# Altium footprint library Con Mod Jack PCB.PcbLib: 213 footprints (part 2 of 14)
Each footprint in its own frame and in the unit in brackets; x right, y up, seen from the top. Pads: shape width x height; smd on the part's side, far side on the other; paste and mask are expansions set on the pad; w line width, h text height; cw(c..) or ccw(c..) is an arc to the next point about the centre after c.
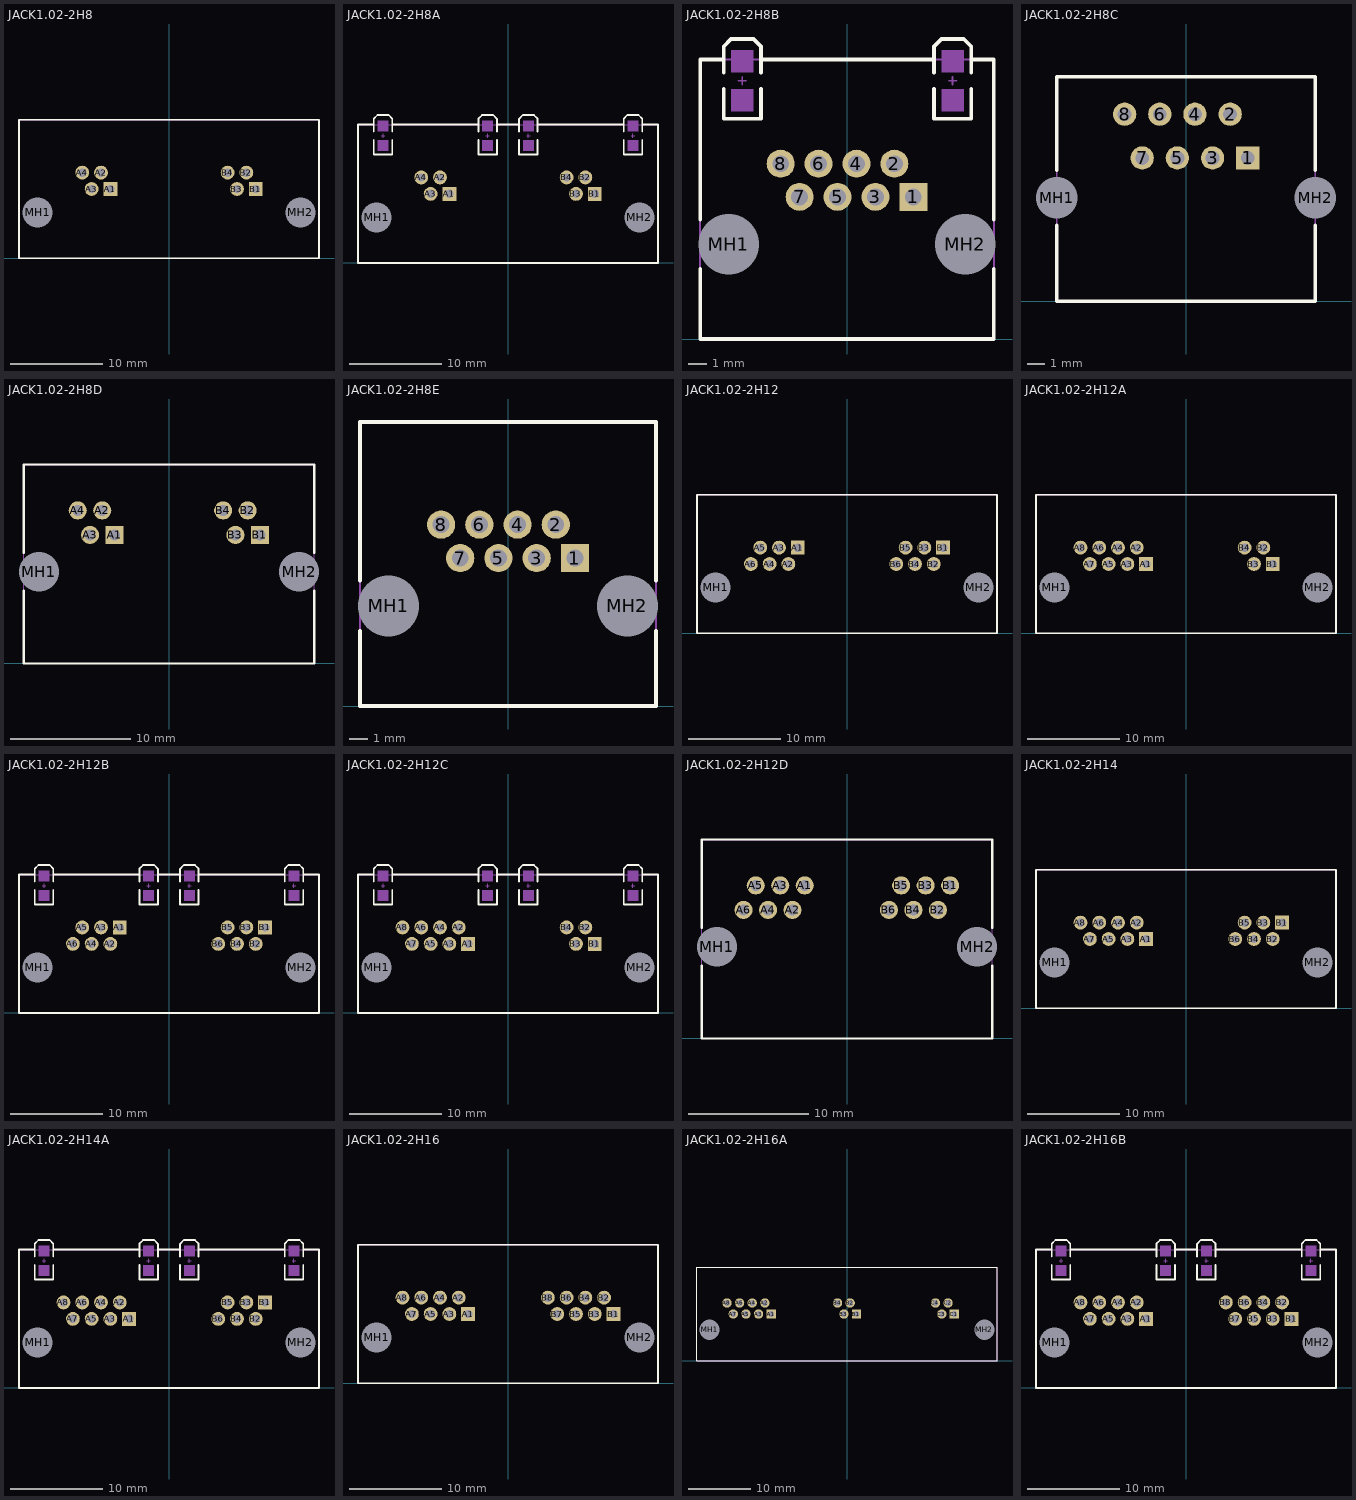
[diagram p1: the footprints below, top view; thin cyan lines are the x and y axes]

## JACK1.02-2H8 [mm] "Connector; PCB Jack, Thru-Hole; 2-Port, 6 Positions, 4 Loaded; Unshielded without Lightpipes; Right Angle"
height 13.21
pads (10):
  rect 1.5x1.5 hole 0.9: A1(-6.35,7.49) B1(9.398,7.49)
  round 1.5 hole 0.9: A2(-7.366,9.268) A3(-8.382,7.49) A4(-9.398,9.268) B2(8.382,9.268) B3(7.366,7.49) B4(6.35,9.268)
  round 2.95 hole 3.25 unplated: MH1(-14.224,4.95) MH2(14.224,4.95)
Top Overlay:
  lines w0.2: -16.249,0 16.249,0 16.249,14.99 -16.249,14.99 -16.249,0
Mechanical 13:
  lines w0.1: -16.249,0 -16.249,14.99 16.249,14.99 16.249,0 -16.249,0
3D body: height 13.21, standoff 0, extent -16.249,0 16.249,14.99

## JACK1.02-2H8A [mm] "Connector; PCB Jack, Thru-Hole; 2-Port, 6 Positions, 4 Loaded; Unshielded with Lightpipes; Right Angle"
height 13.21
pads (10):
  rect 1.5x1.5 hole 0.9: A1(-6.35,7.49) B1(9.398,7.49)
  round 1.5 hole 0.9: A2(-7.366,9.268) A3(-8.382,7.49) A4(-9.398,9.268) B2(8.382,9.268) B3(7.366,7.49) B4(6.35,9.268)
  round 2.95 hole 3.25 unplated: MH1(-14.224,4.95) MH2(14.224,4.95)
Top Overlay:
  lines w0.2: -14.538,13.348 -14.538,11.748 -12.538,11.748 -12.538,13.348 ; -14.538,14.231 -14.538,15.631 -14.138,16.031 -12.938,16.031 -12.538,15.631 -12.538,14.231 ; -14.538,14.99 -16.249,14.99 -16.249,0 16.249,0 16.249,14.99 14.538,14.99 ; -12.538,14.99 -3.21,14.99 ; -3.21,13.348 -3.21,11.748 -1.21,11.748 -1.21,13.348 ; -3.21,14.231 -3.21,15.631 -2.81,16.031 -1.61,16.031 -1.21,15.631 -1.21,14.231 ; -1.21,14.99 1.21,14.99 ; 1.21,13.348 1.21,11.748 3.21,11.748 3.21,13.348 ; 1.21,14.231 1.21,15.631 1.61,16.031 2.81,16.031 3.21,15.631 3.21,14.231 ; 3.21,14.99 12.538,14.99 ; 12.538,13.348 12.538,11.748 14.538,11.748 14.538,13.348 ; 12.538,14.231 12.538,15.631 12.938,16.031 14.138,16.031 14.538,15.631 14.538,14.231
Mechanical 1:
  rectangle: -14.138,12.148 -12.938,13.348
  rectangle: -2.81,12.148 -1.61,13.348
  rectangle: -2.81,14.231 -1.61,15.431
  rectangle: 1.61,14.231 2.81,15.431
  rectangle: 1.61,12.148 2.81,13.348
  rectangle: 12.938,14.231 14.138,15.431
  rectangle: 12.938,12.148 14.138,13.348
  rectangle: -14.138,14.231 -12.938,15.431
  lines w0.1: -13.738,13.789 -13.538,13.789 ; -13.538,13.589 -13.538,13.789 ; -13.538,13.989 -13.538,13.789 ; -13.338,13.789 -13.538,13.789 ; -2.41,13.789 -2.21,13.789 ; -2.21,13.589 -2.21,13.789 ; -2.21,13.989 -2.21,13.789 ; -2.01,13.789 -2.21,13.789 ; 2.01,13.789 2.21,13.789 ; 2.21,13.589 2.21,13.789 ; 2.21,13.989 2.21,13.789 ; 2.41,13.789 2.21,13.789 ; 13.338,13.789 13.538,13.789 ; 13.538,13.589 13.538,13.789 ; 13.538,13.989 13.538,13.789 ; 13.738,13.789 13.538,13.789
Mechanical 13:
  lines w0.1: -16.249,0 16.249,0 16.249,14.99 -16.249,14.99 -16.249,0
3D body: height 13.21, standoff 0, extent -16.248,0.001 16.248,14.99

## JACK1.02-2H8B [mm] "Connector; PCB Jack, Thru-Hole; 1-Port, 8 Positions, 8 Loaded; Unshielded with Lightpipes; Right Angle"
height 13.21
pads (10):
  rect 1.5x1.5 hole 0.9: 1(3.556,7.62)
  round 1.5 hole 0.9: 2(2.54,9.398) 3(1.524,7.62) 4(0.508,9.398) 5(-0.508,7.62) 6(-1.524,9.398) 7(-2.54,7.62) 8(-3.556,9.398)
  round 2.95 hole 3.25 unplated: MH1(-6.35,5.08) MH2(6.35,5.08)
Top Overlay:
  lines w0.2: -7.875,3.748 -7.875,0 7.875,0 7.875,3.748 ; -7.875,6.412 -7.875,14.99 -6.613,14.99 ; -6.613,13.402 -6.613,11.802 -4.613,11.802 -4.613,13.402 ; -6.613,14.284 -6.613,15.684 -6.213,16.084 -5.013,16.084 -4.613,15.684 -4.613,14.284 ; -4.613,14.99 4.664,14.99 ; 4.664,13.402 4.664,11.802 6.664,11.802 6.664,13.402 ; 4.664,14.284 4.664,15.684 5.064,16.084 6.264,16.084 6.664,15.684 6.664,14.284 ; 6.664,14.99 7.875,14.99 7.875,6.412
Mechanical 1:
  rectangle: 5.064,14.284 6.264,15.484
  rectangle: 5.064,12.202 6.264,13.402
  rectangle: -6.213,14.284 -5.013,15.484
  rectangle: -6.213,12.202 -5.013,13.402
  lines w0.1: -5.813,13.843 -5.613,13.843 ; -5.613,13.643 -5.613,13.843 ; -5.613,14.043 -5.613,13.843 ; -5.413,13.843 -5.613,13.843 ; 5.464,13.843 5.664,13.843 ; 5.664,13.643 5.664,13.843 ; 5.664,14.043 5.664,13.843 ; 5.864,13.843 5.664,13.843
Mechanical 13:
  lines w0.1: -7.875,0 -7.875,14.99 7.875,14.99 7.875,0 -7.875,0
3D body: height 13.21, standoff 0, extent -7.874,0.001 7.874,14.99

## JACK1.02-2H8C [mm] "Connector; PCB Jack, Thru-Hole; 1-Port, 8 Positions, 8 Loaded; Unshielded without Lightpipes; Right Angle"
height 14.5
pads (10):
  rect 1.35x1.35 hole 0.8: 1(3.58,8.3)
  round 1.35 hole 0.8: 2(2.56,10.84) 3(1.54,8.3) 4(0.52,10.84) 5(-0.5,8.3) 6(-1.52,10.84) 7(-2.54,8.3) 8(-3.56,10.84)
  round 2.1 hole 2.4 unplated: MH1(-7.5,6) MH2(7.5,6)
Top Overlay:
  lines w0.2: -7.5,4.4 -7.5,0 7.5,0 7.5,4.4 ; -7.5,7.6 -7.5,13 7.5,13 7.5,7.6
Mechanical 13:
  lines w0.1: -7.5,0 -7.5,13 7.5,13 7.5,0 -7.5,0
3D body: height 14.5, standoff 0, extent -7.5,0 7.5,13

## JACK1.02-2H8D [mm] "Connector; PCB Jack, Thru-Hole; 2-Port, 6 Positions, 4 Loaded; Unshielded without Lightpipes; Right Angle"
height 12.7
pads (10):
  rect 1.5x1.5 hole 0.9: A1(-4.521,10.668) B1(7.544,10.668)
  round 1.5 hole 0.9: A2(-5.537,12.7) A3(-6.553,10.668) A4(-7.569,12.7) B2(6.528,12.7) B3(5.512,10.668) B4(4.496,12.7)
  round 3 hole 3.3 unplated: MH1(-10.795,7.62) MH2(10.795,7.62)
Top Overlay:
  lines w0.2: -12.065,6.043 -12.065,0 12.065,0 12.065,6.043 ; -12.065,9.197 -12.065,16.51 12.065,16.51 12.065,9.197
Mechanical 13:
  lines w0.1: -12.065,0 -12.065,16.51 12.065,16.51 12.065,0 -12.065,0
3D body: height 12.7, standoff 0, extent -12.065,0 12.065,16.51

## JACK1.02-2H8E [mm] "Connector; PCB Jack, Thru-Hole; 1-Port, 8 Positions, 8 Loaded; Unshielded without Lightpipes; Right Angle"
height 13.21
pads (10):
  rect 1.5x1.5 hole 0.9: 1(3.556,7.87)
  round 1.5 hole 0.9: 2(2.54,9.648) 3(1.524,7.87) 4(0.508,9.648) 5(-0.508,7.87) 6(-1.524,9.648) 7(-2.54,7.87) 8(-3.556,9.648)
  round 2.95 hole 3.25 unplated: MH1(-6.35,5.33) MH2(6.35,5.33)
Top Overlay:
  lines w0.2: -7.875,3.998 -7.875,0 7.875,0 7.875,3.998 ; -7.875,6.662 -7.875,15.11 7.875,15.11 7.875,6.662
Mechanical 13:
  lines w0.1: -7.875,0 -7.875,15.11 7.875,15.11 7.875,0 -7.875,0
3D body: height 13.21, standoff 0, extent -7.875,0 7.875,15.11

## JACK1.02-2H12 [mm] "Connector; PCB Jack, Thru-Hole; 2-Port, 6 Positions, 6 Loaded; Unshielded without Lightpipes; Right Angle"
height 13.21
pads (14):
  rect 1.5x1.5 hole 0.9: A1(-5.334,9.268) B1(10.414,9.268)
  round 1.5 hole 0.9: A2(-6.35,7.49) A3(-7.366,9.268) A4(-8.382,7.49) A5(-9.398,9.268) A6(-10.414,7.49) B2(9.398,7.49) B3(8.382,9.268) B4(7.366,7.49) B5(6.35,9.268) B6(5.334,7.49)
  round 2.95 hole 3.25 unplated: MH1(-14.224,4.95) MH2(14.224,4.95)
Top Overlay:
  lines w0.2: -16.249,0 16.249,0 16.249,14.99 -16.249,14.99 -16.249,0
Mechanical 13:
  lines w0.1: -16.249,0 -16.249,14.99 16.249,14.99 16.249,0 -16.249,0
3D body: height 13.21, standoff 0, extent -16.249,0 16.249,14.99

## JACK1.02-2H12A [mm] "Connector; PCB Jack, Thru-Hole; 2-Port; Unshielded without Lightpipes; Right Angle"
height 13.21
pads (14):
  rect 1.5x1.5 hole 0.9: A1(-4.318,7.49) B1(9.398,7.49)
  round 1.5 hole 0.9: A2(-5.334,9.268) A3(-6.35,7.49) A4(-7.366,9.268) A5(-8.382,7.49) A6(-9.398,9.268) A7(-10.414,7.49) A8(-11.43,9.268) B2(8.382,9.268) B3(7.366,7.49) B4(6.35,9.268)
  round 2.95 hole 3.25 unplated: MH1(-14.224,4.95) MH2(14.224,4.95)
Top Overlay:
  lines w0.2: -16.249,0 16.249,0 16.249,14.99 -16.249,14.99 -16.249,0
Mechanical 13:
  lines w0.1: -16.249,0 -16.249,14.99 16.249,14.99 16.249,0 -16.249,0
3D body: height 13.21, standoff 0, extent -16.249,0 16.249,14.99

## JACK1.02-2H12B [mm] "Connector; PCB Jack, Thru-Hole; 2-Port, 6 Positions, 6 Loaded; Unshielded with Lightpipes; Right Angle"
height 13.21
pads (14):
  rect 1.5x1.5 hole 0.9: A1(-5.334,9.268) B1(10.414,9.268)
  round 1.5 hole 0.9: A2(-6.35,7.49) A3(-7.366,9.268) A4(-8.382,7.49) A5(-9.398,9.268) A6(-10.414,7.49) B2(9.398,7.49) B3(8.382,9.268) B4(7.366,7.49) B5(6.35,9.268) B6(5.334,7.49)
  round 2.95 hole 3.25 unplated: MH1(-14.224,4.95) MH2(14.224,4.95)
Top Overlay:
  lines w0.2: -14.538,13.348 -14.538,11.748 -12.538,11.748 -12.538,13.348 ; -14.538,14.231 -14.538,15.631 -14.138,16.031 -12.938,16.031 -12.538,15.631 -12.538,14.231 ; -14.538,14.99 -16.249,14.99 -16.249,0 16.249,0 16.249,14.99 14.538,14.99 ; -12.538,14.99 -3.21,14.99 ; -3.21,13.348 -3.21,11.748 -1.21,11.748 -1.21,13.348 ; -3.21,14.231 -3.21,15.631 -2.81,16.031 -1.61,16.031 -1.21,15.631 -1.21,14.231 ; -1.21,14.99 1.21,14.99 ; 1.21,13.348 1.21,11.748 3.21,11.748 3.21,13.348 ; 1.21,14.231 1.21,15.631 1.61,16.031 2.81,16.031 3.21,15.631 3.21,14.231 ; 3.21,14.99 12.538,14.99 ; 12.538,13.348 12.538,11.748 14.538,11.748 14.538,13.348 ; 12.538,14.231 12.538,15.631 12.938,16.031 14.138,16.031 14.538,15.631 14.538,14.231
Mechanical 1:
  rectangle: 12.938,14.231 14.138,15.431
  rectangle: 12.938,12.148 14.138,13.348
  rectangle: 1.61,14.231 2.81,15.431
  rectangle: 1.61,12.148 2.81,13.348
  rectangle: -2.81,14.231 -1.61,15.431
  rectangle: -2.81,12.148 -1.61,13.348
  rectangle: -14.138,14.231 -12.938,15.431
  rectangle: -14.138,12.148 -12.938,13.348
  lines w0.1: -13.738,13.789 -13.538,13.789 ; -13.538,13.589 -13.538,13.789 ; -13.538,13.989 -13.538,13.789 ; -13.338,13.789 -13.538,13.789 ; -2.41,13.789 -2.21,13.789 ; -2.21,13.589 -2.21,13.789 ; -2.21,13.989 -2.21,13.789 ; -2.01,13.789 -2.21,13.789 ; 2.01,13.789 2.21,13.789 ; 2.21,13.589 2.21,13.789 ; 2.21,13.989 2.21,13.789 ; 2.41,13.789 2.21,13.789 ; 13.338,13.789 13.538,13.789 ; 13.538,13.589 13.538,13.789 ; 13.538,13.989 13.538,13.789 ; 13.738,13.789 13.538,13.789
Mechanical 13:
  lines w0.1: -16.249,0 -16.249,14.99 16.249,14.99 16.249,0 -16.249,0
3D body: height 13.21, standoff 0, extent -16.248,0.001 16.248,14.99

## JACK1.02-2H12C [mm] "Connector; PCB Jack, Thru-Hole; 2-Port; Unshielded with Lightpipes; Right Angle"
height 13.21
pads (14):
  rect 1.5x1.5 hole 0.9: A1(-4.318,7.49) B1(9.398,7.49)
  round 1.5 hole 0.9: A2(-5.334,9.268) A3(-6.35,7.49) A4(-7.366,9.268) A5(-8.382,7.49) A6(-9.398,9.268) A7(-10.414,7.49) A8(-11.43,9.268) B2(8.382,9.268) B3(7.366,7.49) B4(6.35,9.268)
  round 2.95 hole 3.25 unplated: MH1(-14.224,4.95) MH2(14.224,4.95)
Top Overlay:
  lines w0.2: -14.538,13.348 -14.538,11.748 -12.538,11.748 -12.538,13.348 ; -14.538,14.231 -14.538,15.631 -14.138,16.031 -12.938,16.031 -12.538,15.631 -12.538,14.231 ; -14.538,14.99 -16.249,14.99 -16.249,0 16.249,0 16.249,14.99 14.538,14.99 ; -12.538,14.99 -3.21,14.99 ; -3.21,13.348 -3.21,11.748 -1.21,11.748 -1.21,13.348 ; -3.21,14.231 -3.21,15.631 -2.81,16.031 -1.61,16.031 -1.21,15.631 -1.21,14.231 ; -1.21,14.99 1.21,14.99 ; 1.21,13.348 1.21,11.748 3.21,11.748 3.21,13.348 ; 1.21,14.231 1.21,15.631 1.61,16.031 2.81,16.031 3.21,15.631 3.21,14.231 ; 3.21,14.99 12.538,14.99 ; 12.538,13.348 12.538,11.748 14.538,11.748 14.538,13.348 ; 12.538,14.231 12.538,15.631 12.938,16.031 14.138,16.031 14.538,15.631 14.538,14.231
Mechanical 1:
  rectangle: -14.138,12.148 -12.938,13.348
  rectangle: -14.138,14.231 -12.938,15.431
  rectangle: -2.81,12.148 -1.61,13.348
  rectangle: -2.81,14.231 -1.61,15.431
  rectangle: 1.61,12.148 2.81,13.348
  rectangle: 1.61,14.231 2.81,15.431
  rectangle: 12.938,12.148 14.138,13.348
  rectangle: 12.938,14.231 14.138,15.431
  lines w0.1: -13.738,13.789 -13.538,13.789 ; -13.538,13.589 -13.538,13.789 ; -13.538,13.989 -13.538,13.789 ; -13.338,13.789 -13.538,13.789 ; -2.41,13.789 -2.21,13.789 ; -2.21,13.589 -2.21,13.789 ; -2.21,13.989 -2.21,13.789 ; -2.01,13.789 -2.21,13.789 ; 2.01,13.789 2.21,13.789 ; 2.21,13.589 2.21,13.789 ; 2.21,13.989 2.21,13.789 ; 2.41,13.789 2.21,13.789 ; 13.338,13.789 13.538,13.789 ; 13.538,13.589 13.538,13.789 ; 13.538,13.989 13.538,13.789 ; 13.738,13.789 13.538,13.789
Mechanical 13:
  lines w0.1: -16.249,0 -16.249,14.99 16.249,14.99 16.249,0 -16.249,0
3D body: height 13.21, standoff 0, extent -16.248,0.001 16.248,14.99

## JACK1.02-2H12D [mm] "Connector; PCB Jack, Thru-Hole; 2-Port, 6 Positions, 6 Loaded; Unshielded without Lightpipes; Right Angle"
height 12.7
pads (14):
  round 1.5 hole 0.9: A1(-3.505,12.7) A2(-4.521,10.668) A3(-5.537,12.7) A4(-6.553,10.668) A5(-7.569,12.7) A6(-8.585,10.668) B1(8.56,12.7) B2(7.544,10.668) B3(6.528,12.7) B4(5.512,10.668) B5(4.496,12.7) B6(3.48,10.668)
  round 3 hole 3.3 unplated: MH1(-10.795,7.62) MH2(10.795,7.62)
Top Overlay:
  lines w0.2: -12.065,6.043 -12.065,0 12.065,0 12.065,6.043 ; -12.065,9.197 -12.065,16.51 12.065,16.51 12.065,9.197
Mechanical 13:
  lines w0.1: -12.065,0 -12.065,16.51 12.065,16.51 12.065,0 -12.065,0
3D body: height 12.7, standoff 0, extent -12.065,0 12.065,16.51

## JACK1.02-2H14 [mm] "Connector; PCB Jack, Thru-Hole; 2-Port; Unshielded without Lightpipes; Right Angle"
height 13.21
pads (16):
  rect 1.5x1.5 hole 0.9: A1(-4.318,7.49) B1(10.414,9.268)
  round 1.5 hole 0.9: A2(-5.334,9.268) A3(-6.35,7.49) A4(-7.366,9.268) A5(-8.382,7.49) A6(-9.398,9.268) A7(-10.414,7.49) A8(-11.43,9.268) B2(9.398,7.49) B3(8.382,9.268) B4(7.366,7.49) B5(6.35,9.268) B6(5.334,7.49)
  round 2.95 hole 3.25 unplated: MH1(-14.224,4.95) MH2(14.224,4.95)
Top Overlay:
  lines w0.2: -16.249,0 -16.249,14.99 16.249,14.99 16.249,0 -16.249,0
Mechanical 13:
  lines w0.1: -16.249,0 -16.249,14.99 16.249,14.99 16.249,0 -16.249,0
3D body: height 13.21, standoff 0, extent -16.249,0 16.249,14.99

## JACK1.02-2H14A [mm] "Connector; PCB Jack, Thru-Hole; 2-Port; Unshielded with Lightpipes; Right Angle"
height 13.21
pads (16):
  rect 1.5x1.5 hole 0.9: A1(-4.318,7.49) B1(10.414,9.268)
  round 1.5 hole 0.9: A2(-5.334,9.268) A3(-6.35,7.49) A4(-7.366,9.268) A5(-8.382,7.49) A6(-9.398,9.268) A7(-10.414,7.49) A8(-11.43,9.268) B2(9.398,7.49) B3(8.382,9.268) B4(7.366,7.49) B5(6.35,9.268) B6(5.334,7.49)
  round 2.95 hole 3.25 unplated: MH1(-14.224,4.95) MH2(14.224,4.95)
Top Overlay:
  lines w0.2: -14.538,13.348 -14.538,11.748 -12.538,11.748 -12.538,13.348 ; -14.538,14.231 -14.538,15.631 -14.138,16.031 -12.938,16.031 -12.538,15.631 -12.538,14.231 ; -14.538,14.99 -16.249,14.99 -16.249,0 16.249,0 16.249,14.99 14.538,14.99 ; -12.538,14.99 -3.21,14.99 ; -3.21,13.348 -3.21,11.748 -1.21,11.748 -1.21,13.348 ; -3.21,14.231 -3.21,15.631 -2.81,16.031 -1.61,16.031 -1.21,15.631 -1.21,14.231 ; -1.21,14.99 1.21,14.99 ; 1.21,13.348 1.21,11.748 3.21,11.748 3.21,13.348 ; 1.21,14.231 1.21,15.631 1.61,16.031 2.81,16.031 3.21,15.631 3.21,14.231 ; 3.21,14.99 12.538,14.99 ; 12.538,13.348 12.538,11.748 14.538,11.748 14.538,13.348 ; 12.538,14.231 12.538,15.631 12.938,16.031 14.138,16.031 14.538,15.631 14.538,14.231
Mechanical 1:
  rectangle: 12.938,14.231 14.138,15.431
  rectangle: 12.938,12.148 14.138,13.348
  rectangle: 1.61,14.231 2.81,15.431
  rectangle: 1.61,12.148 2.81,13.348
  rectangle: -2.81,14.231 -1.61,15.431
  rectangle: -2.81,12.148 -1.61,13.348
  rectangle: -14.138,14.231 -12.938,15.431
  rectangle: -14.138,12.148 -12.938,13.348
  lines w0.1: -13.738,13.789 -13.538,13.789 ; -13.538,13.589 -13.538,13.789 ; -13.538,13.989 -13.538,13.789 ; -13.338,13.789 -13.538,13.789 ; -2.41,13.789 -2.21,13.789 ; -2.21,13.589 -2.21,13.789 ; -2.21,13.989 -2.21,13.789 ; -2.01,13.789 -2.21,13.789 ; 2.01,13.789 2.21,13.789 ; 2.21,13.589 2.21,13.789 ; 2.21,13.989 2.21,13.789 ; 2.41,13.789 2.21,13.789 ; 13.338,13.789 13.538,13.789 ; 13.538,13.589 13.538,13.789 ; 13.538,13.989 13.538,13.789 ; 13.738,13.789 13.538,13.789
Mechanical 13:
  lines w0.1: -16.249,0 16.249,0 16.249,14.99 -16.249,14.99 -16.249,0
3D body: height 13.21, standoff 0, extent -16.248,0.001 16.248,14.989

## JACK1.02-2H16 [mm] "Connector; PCB Jack, Thru-Hole; 2-Port, 8 Positions, 8 Loaded; Unshielded without Lightpipes; Right Angle"
height 13.21
pads (18):
  rect 1.5x1.5 hole 0.9: A1(-4.318,7.49) B1(11.43,7.49)
  round 1.5 hole 0.9: A2(-5.334,9.268) A3(-6.35,7.49) A4(-7.366,9.268) A5(-8.382,7.49) A6(-9.398,9.268) A7(-10.414,7.49) A8(-11.43,9.268) B2(10.414,9.268) B3(9.398,7.49) B4(8.382,9.268) B5(7.366,7.49) B6(6.35,9.268) B7(5.334,7.49) B8(4.318,9.268)
  round 2.95 hole 3.25 unplated: MH1(-14.224,4.95) MH2(14.224,4.95)
Top Overlay:
  lines w0.2: -16.249,0 -16.249,14.99 16.249,14.99 16.249,0 -16.249,0
Mechanical 13:
  lines w0.1: -16.249,0 -16.249,14.99 16.249,14.99 16.249,0 -16.249,0
3D body: height 13.21, standoff 0, extent -16.249,0 16.249,14.99

## JACK1.02-2H16A [mm] "Connector; PCB Jack, Thru-Hole; 3-Port; Unshielded without Lightpipes; Right Angle"
height 13.21
pads (18):
  rect 1.5x1.5 hole 0.9: A1(-12.192,7.49) B1(1.524,7.49) C1(17.272,7.49)
  round 1.5 hole 0.9: A2(-13.208,9.268) A3(-14.224,7.49) A4(-15.24,9.268) A5(-16.256,7.49) A6(-17.272,9.268) A7(-18.288,7.49) A8(-19.304,9.268) B2(0.508,9.268) B3(-0.508,7.49) B4(-1.524,9.268) C2(16.256,9.268) C3(15.24,7.49) C4(14.224,9.268)
  round 2.95 hole 3.25 unplated: MH1(-22.098,4.95) MH2(22.098,4.95)
Top Overlay:
  lines w0.2: -24.123,0 24.123,0 24.123,14.99 -24.123,14.99 -24.123,0
Mechanical 13:
  lines w0.1: -24.123,0 -24.123,14.99 24.123,14.99 24.123,0 -24.123,0
3D body: height 13.21, standoff 0, extent -24.123,0 24.123,14.99

## JACK1.02-2H16B [mm] "Connector; PCB Jack, Thru-Hole; 2-Port, 8 Positions, 8 Loaded; Unshielded with Lightpipes; Right Angle"
height 13.21
pads (18):
  rect 1.5x1.5 hole 0.9: A1(-4.318,7.49) B1(11.43,7.49)
  round 1.5 hole 0.9: A2(-5.334,9.268) A3(-6.35,7.49) A4(-7.366,9.268) A5(-8.382,7.49) A6(-9.398,9.268) A7(-10.414,7.49) A8(-11.43,9.268) B2(10.414,9.268) B3(9.398,7.49) B4(8.382,9.268) B5(7.366,7.49) B6(6.35,9.268) B7(5.334,7.49) B8(4.318,9.268)
  round 2.95 hole 3.25 unplated: MH1(-14.224,4.95) MH2(14.224,4.95)
Top Overlay:
  lines w0.2: -14.538,13.348 -14.538,11.748 -12.538,11.748 -12.538,13.348 ; -14.538,14.231 -14.538,15.631 -14.138,16.031 -12.938,16.031 -12.538,15.631 -12.538,14.231 ; -14.538,14.99 -16.249,14.99 -16.249,0 16.249,0 16.249,14.99 14.538,14.99 ; -12.538,14.99 -3.21,14.99 ; -3.21,13.348 -3.21,11.748 -1.21,11.748 -1.21,13.348 ; -3.21,14.231 -3.21,15.631 -2.81,16.031 -1.61,16.031 -1.21,15.631 -1.21,14.231 ; -1.21,14.99 1.21,14.99 ; 1.21,13.348 1.21,11.748 3.21,11.748 3.21,13.348 ; 1.21,14.231 1.21,15.631 1.61,16.031 2.81,16.031 3.21,15.631 3.21,14.231 ; 3.21,14.99 12.538,14.99 ; 12.538,13.348 12.538,11.748 14.538,11.748 14.538,13.348 ; 12.538,14.231 12.538,15.631 12.938,16.031 14.138,16.031 14.538,15.631 14.538,14.231
Mechanical 1:
  rectangle: 12.938,14.231 14.138,15.431
  rectangle: 12.938,12.148 14.138,13.348
  rectangle: 1.61,14.231 2.81,15.431
  rectangle: 1.61,12.148 2.81,13.348
  rectangle: -2.81,14.231 -1.61,15.431
  rectangle: -2.81,12.148 -1.61,13.348
  rectangle: -14.138,14.231 -12.938,15.431
  rectangle: -14.138,12.148 -12.938,13.348
  lines w0.1: -13.738,13.789 -13.538,13.789 ; -13.538,13.589 -13.538,13.789 ; -13.538,13.989 -13.538,13.789 ; -13.338,13.789 -13.538,13.789 ; -2.41,13.789 -2.21,13.789 ; -2.21,13.589 -2.21,13.789 ; -2.21,13.989 -2.21,13.789 ; -2.01,13.789 -2.21,13.789 ; 2.01,13.789 2.21,13.789 ; 2.21,13.589 2.21,13.789 ; 2.21,13.989 2.21,13.789 ; 2.41,13.789 2.21,13.789 ; 13.338,13.789 13.538,13.789 ; 13.538,13.589 13.538,13.789 ; 13.538,13.989 13.538,13.789 ; 13.738,13.789 13.538,13.789
Mechanical 13:
  lines w0.1: -16.249,0 16.249,0 16.249,14.99 -16.249,14.99 -16.249,0
3D body: height 13.21, standoff 0, extent -16.248,0.001 16.248,14.99